# Altium schematic symbol library MMSZ4678T1G.SchLib: 2 symbols
Pins are listed as number, name and electrical type; pins without a type are passive.

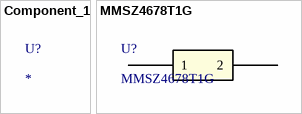
[diagram p0: symbols Component_1 to MMSZ4678T1G]

## Component_1
designator U?
Value: *; HelpURL: *; MPN: *; Supplier: *; SupplierPartNumber: *

## MMSZ4678T1G
designator U?
No Description Available; Mfr_Name: onsemi; Copyright: Copyright (C) 2023 Ultra Librarian. All rights reserved.; Manufacturer_Part_Number: MMSZ4678T1G; RefDes: RefDes; Type: DEV
footprint SOD_8T1G_ONS
pins: 1, 2